# Altium schematic symbol library AD9363_K7.SCHLIB: 77 symbols
Pins are listed as number, name and electrical type; pins without a type are passive.

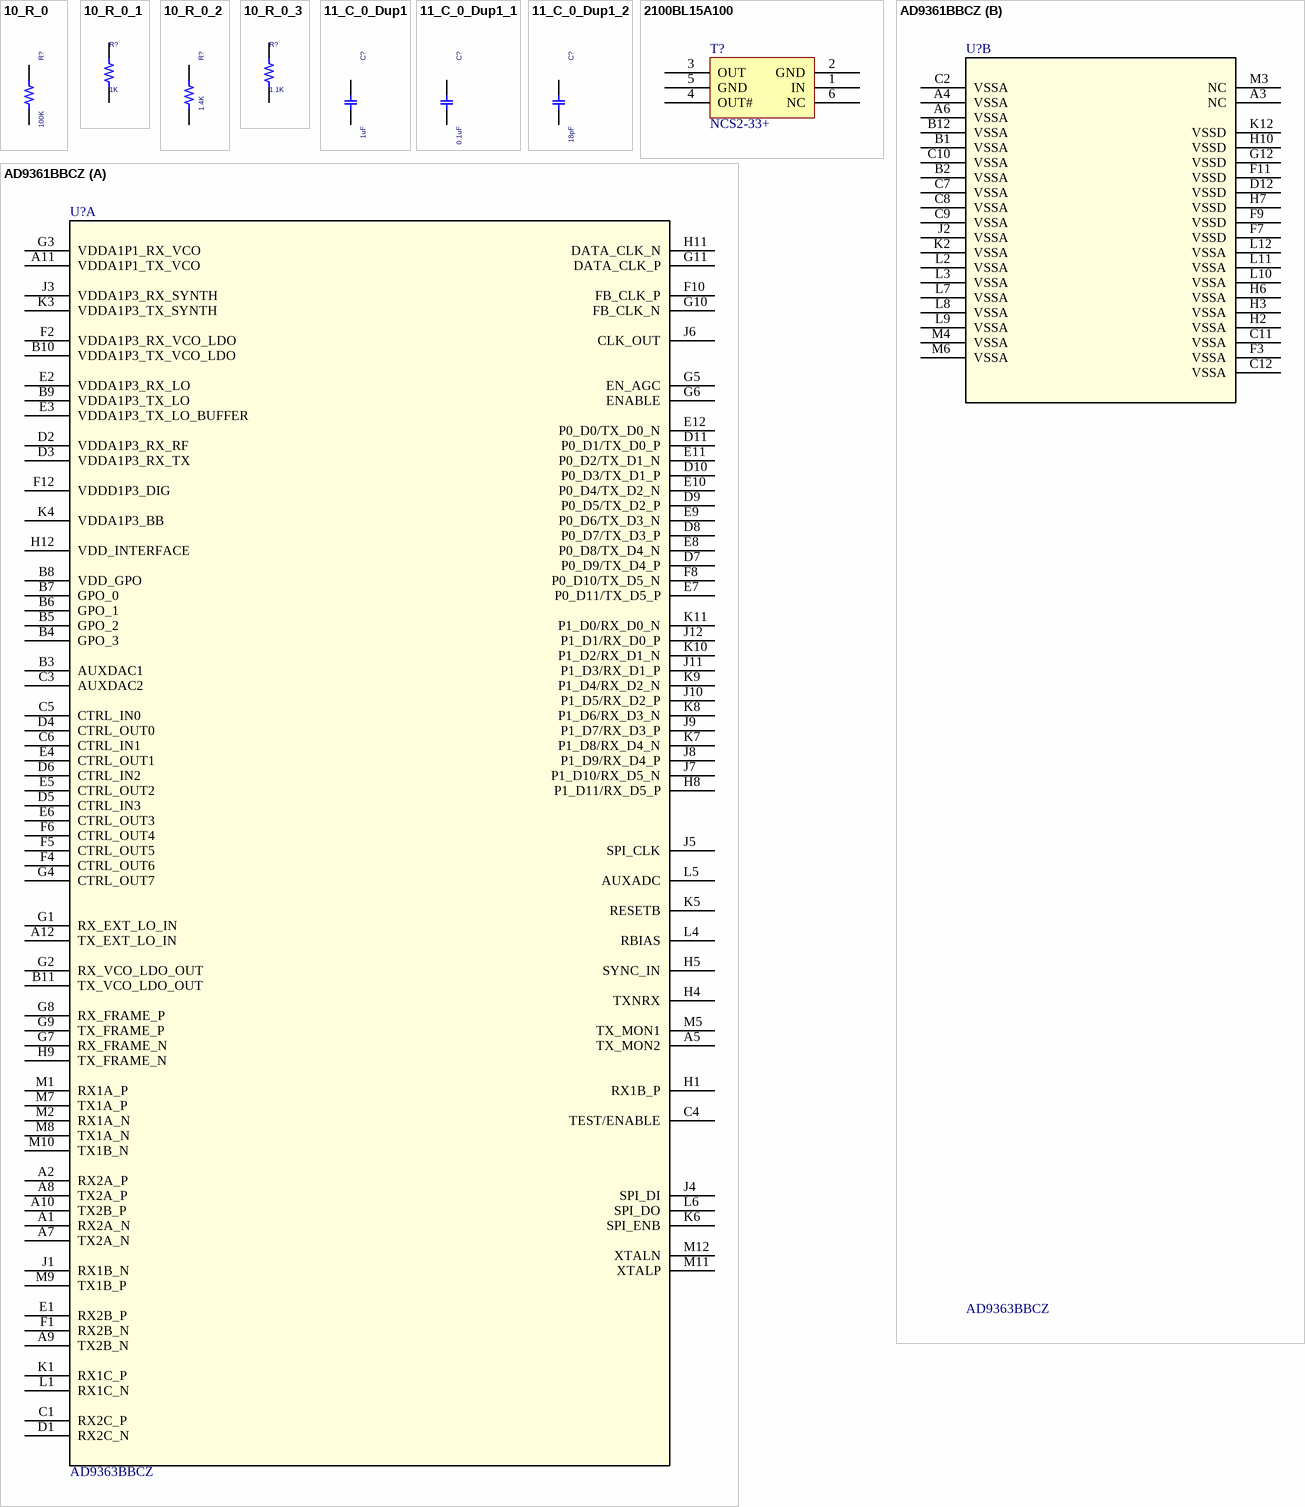
[diagram p0: symbols 10_R_0 to AD9361BBCZ]

## 10_R_0
designator R?, comment 100K
R 22 1/16W 5% SMD 0402 CR Pb FREE; Manufacture Part Number: 0402WGJ0220TCE||RM04JTN220; 1ST PART DESCRIPTION: RESISTOR 100k OHM 1/16 1%; CLASS: DISCRETE; ProcessType: SMT; Tolerance: 5%
footprint R0402
pins: 1, 2

## 10_R_0_1
designator R?, comment 1K
R 22 1/16W 5% SMD 0402 CR Pb FREE; 1ST PART DESCRIPTION: RESISTOR 1k OHM 1/16 1%; Manufacture Part Number: 0402WGJ0220TCE||RM04JTN220; CLASS: DISCRETE; ProcessType: SMT; Tolerance: 5%
footprint R0402
pins: 1, 2

## 10_R_0_2
designator R?, comment 1.4K
R 22 1/16W 5% SMD 0402 CR Pb FREE; Manufacture Part Number: 0402WGJ0220TCE||RM04JTN220; 1ST PART DESCRIPTION: RESISTOR 1.4k OHM 1/16 1%; CLASS: DISCRETE; ProcessType: SMT; Tolerance: 5%
footprint R0402
pins: 1, 2

## 10_R_0_3
designator R?, comment 1.1K
R 22 1/16W 5% SMD 0402 CR Pb FREE; 1ST PART DESCRIPTION: RESISTOR 1k OHM 1/16 1%; Manufacture Part Number: 0402WGJ0220TCE||RM04JTN220; CLASS: DISCRETE; ProcessType: SMT; Tolerance: 5%
footprint R0402
pins: 1, 2

## 11_C_0_Dup1
designator C?, comment 1uF
CAP 0.1uF 16V +-10% SMD 0402 MLCC X7R; Manufacture Part Number: 2238 787 15649||CC0402KRX7R7BB104; CLASS: DISCRETE; Tolerance: 10%; ProcessType: SMT
footprint C0402
pins: 1, 2

## 11_C_0_Dup1_1
designator C?, comment 0.1uF
CAP 0.1uF 16V +-10% SMD 0402 MLCC X7R; Manufacture Part Number: 2238 787 15649||CC0402KRX7R7BB104; CLASS: DISCRETE; Tolerance: 10%; ProcessType: SMT
footprint C0402
pins: 1, 2

## 11_C_0_Dup1_2
designator C?, comment 18pF
CAP 0.1uF 16V +-10% SMD 0402 MLCC X7R; Manufacture Part Number: 2238 787 15649||CC0402KRX7R7BB104; CLASS: DISCRETE; Tolerance: 10%; ProcessType: SMT
footprint C0402
pins: 1, 2

## 2100BL15A100
designator T?, comment NCS2-33+
footprint NCS2-33+
pins: 1 IN, 2 GND, 3 OUT, 4 OUT#, 5 GND, 6 NC

## AD9361BBCZ
designator U?, comment AD9363BBCZ
No Description Available; Mfr_Name: Analog Devices Inc; Manufacturer_Part_Number: AD9361BBCZ; Copyright: Copyright (C) 2023 Ultra Librarian. All rights reserved.; RefDes: RefDes; Type: DEV
footprint BC_144_7_ADI
part A pins: A1 RX2A_N, A2 RX2A_P, A5 TX_MON2, A7 TX2A_N, A8 TX2A_P, A9 TX2B_N, A10 TX2B_P, A11 VDDA1P1_TX_VCO, A12 TX_EXT_LO_IN, B3 AUXDAC1, B4 GPO_3, B5 GPO_2, B6 GPO_1, B7 GPO_0, B8 VDD_GPO, B9 VDDA1P3_TX_LO, B10 VDDA1P3_TX_VCO_LDO, B11 TX_VCO_LDO_OUT, C1 RX2C_P, C3 AUXDAC2, C4 TEST/ENABLE, C5 CTRL_IN0, C6 CTRL_IN1, D1 RX2C_N, D2 VDDA1P3_RX_RF, D3 VDDA1P3_RX_TX, D4 CTRL_OUT0, D5 CTRL_IN3, D6 CTRL_IN2, D7 P0_D9/TX_D4_P, D8 P0_D7/TX_D3_P, D9 P0_D5/TX_D2_P, D10 P0_D3/TX_D1_P, D11 P0_D1/TX_D0_P, E1 RX2B_P, E2 VDDA1P3_RX_LO, E3 VDDA1P3_TX_LO_BUFFER, E4 CTRL_OUT1, E5 CTRL_OUT2, E6 CTRL_OUT3, E7 P0_D11/TX_D5_P, E8 P0_D8/TX_D4_N, E9 P0_D6/TX_D3_N, E10 P0_D4/TX_D2_N, E11 P0_D2/TX_D1_N, E12 P0_D0/TX_D0_N, F1 RX2B_N, F2 VDDA1P3_RX_VCO_LDO, F4 CTRL_OUT6, F5 CTRL_OUT5, F6 CTRL_OUT4, F8 P0_D10/TX_D5_N, F10 FB_CLK_P, F12 VDDD1P3_DIG, G1 RX_EXT_LO_IN, G2 RX_VCO_LDO_OUT, G3 VDDA1P1_RX_VCO, G4 CTRL_OUT7, G5 EN_AGC, G6 ENABLE, G7 RX_FRAME_N, G8 RX_FRAME_P, G9 TX_FRAME_P, G10 FB_CLK_N, G11 DATA_CLK_P, H1 RX1B_P, H4 TXNRX, H5 SYNC_IN, H8 P1_D11/RX_D5_P, H9 TX_FRAME_N, H11 DATA_CLK_N, H12 VDD_INTERFACE, J1 RX1B_N, J3 VDDA1P3_RX_SYNTH, J4 SPI_DI, J5 SPI_CLK, J6 CLK_OUT, J7 P1_D10/RX_D5_N, J8 P1_D9/RX_D4_P, J9 P1_D7/RX_D3_P, J10 P1_D5/RX_D2_P, J11 P1_D3/RX_D1_P, J12 P1_D1/RX_D0_P, K1 RX1C_P, K3 VDDA1P3_TX_SYNTH, K4 VDDA1P3_BB, K5 RESETB, K6 SPI_ENB, K7 P1_D8/RX_D4_N, K8 P1_D6/RX_D3_N, K9 P1_D4/RX_D2_N, K10 P1_D2/RX_D1_N, K11 P1_D0/RX_D0_N, L1 RX1C_N, L4 RBIAS, L5 AUXADC, L6 SPI_DO, M1 RX1A_P, M2 RX1A_N, M5 TX_MON1, M7 TX1A_P, M8 TX1A_N, M9 TX1B_P, M10 TX1B_N, M11 XTALP, M12 XTALN
part B pins: A3 NC, A4 VSSA, A6 VSSA, B1 VSSA, B2 VSSA, B12 VSSA, C2 VSSA, C7 VSSA, C8 VSSA, C9 VSSA, C10 VSSA, C11 VSSA, C12 VSSA, D12 VSSD, F3 VSSA, F7 VSSD, F9 VSSD, F11 VSSD, G12 VSSD, H2 VSSA, H3 VSSA, H6 VSSA, H7 VSSD, H10 VSSD, J2 VSSA, K2 VSSA, K12 VSSD, L2 VSSA, L3 VSSA, L7 VSSA, L8 VSSA, L9 VSSA, L10 VSSA, L11 VSSA, L12 VSSA, M3 NC, M4 VSSA, M6 VSSA

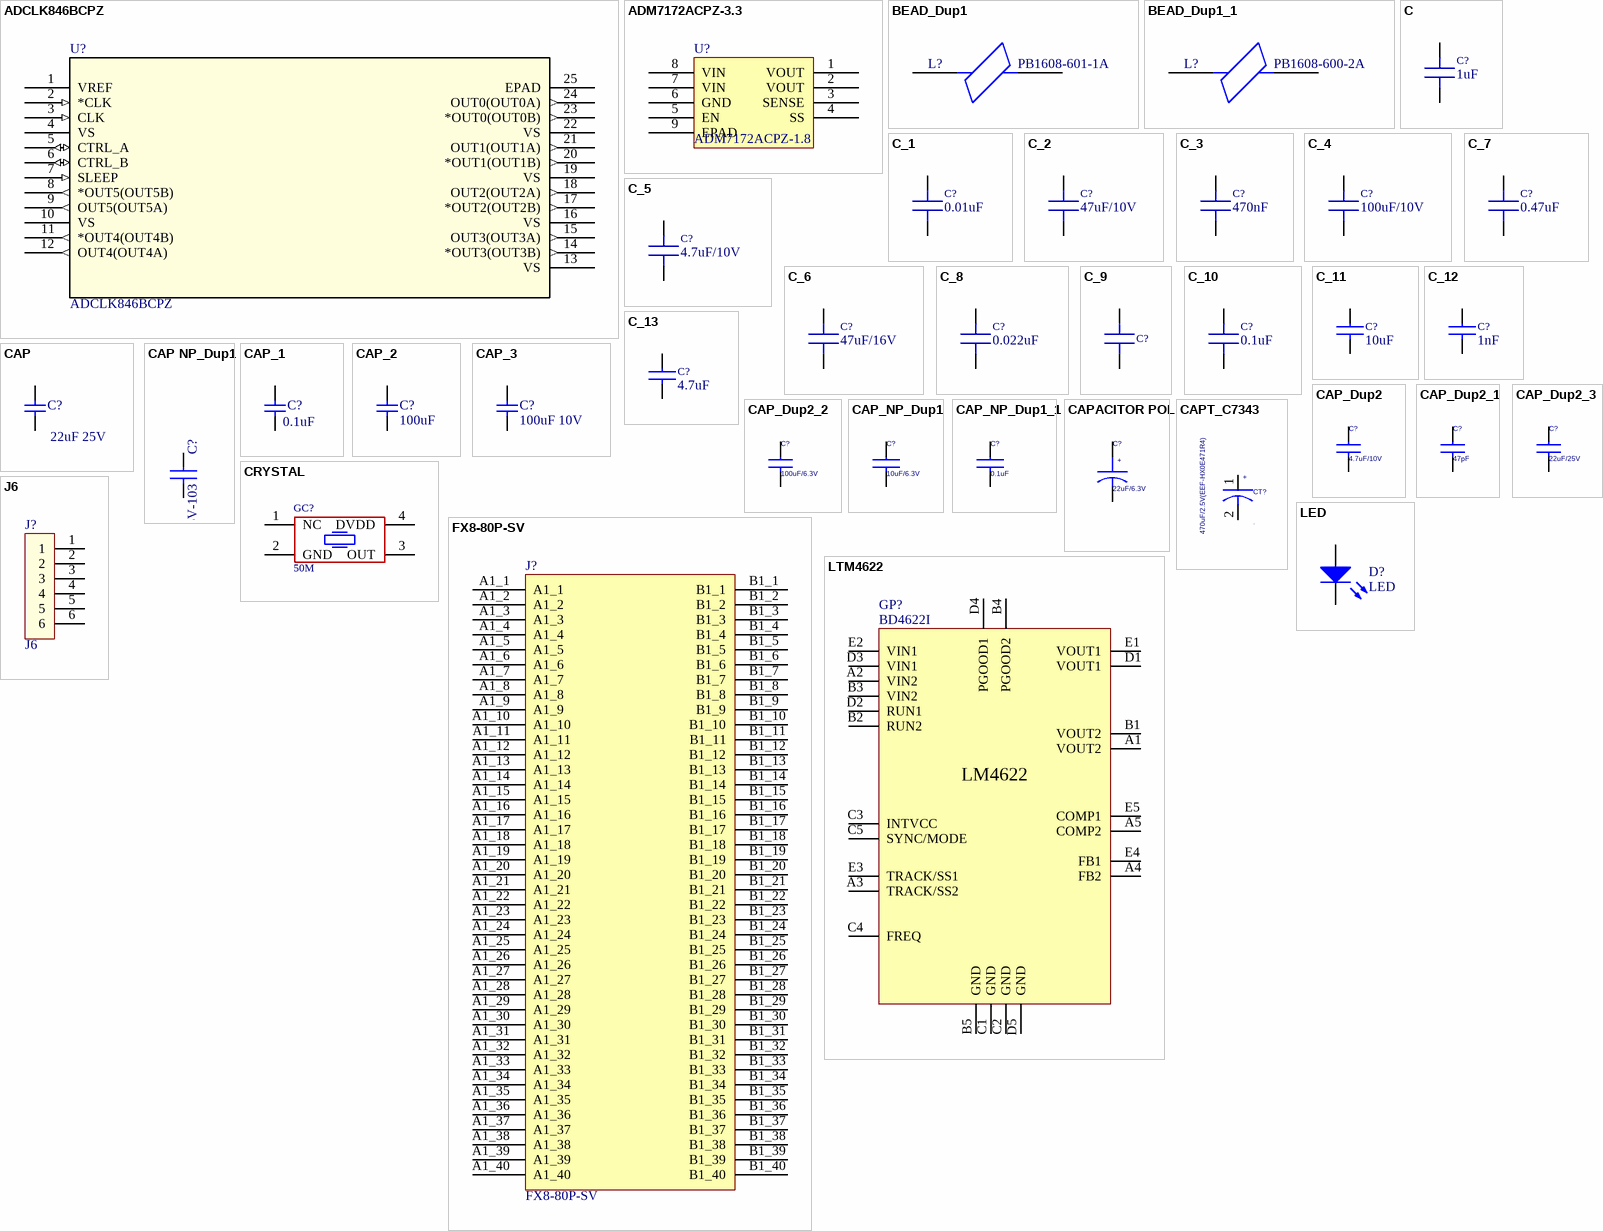
[diagram p1: symbols ADCLK846BCPZ to LTM4622]

## ADCLK846BCPZ
designator U?
No Description Available; Mfr_Name: Analog Devices Inc; Copyright: Copyright (C) 2024 Ultra Librarian. All rights reserved.; Manufacturer_Part_Number: ADCLK846BCPZ; RefDes: RefDes; Type: DEV
footprint CP_24_2_ADI
pins: 1 VREF, 2 *CLK (in), 3 CLK (in), 4 VS (power), 5 CTRL_A (io), 6 CTRL_B (io), 7 SLEEP (in), 8 *OUT5(OUT5B) (out), 9 OUT5(OUT5A) (out), 10 VS (power), 11 *OUT4(OUT4B) (out), 12 OUT4(OUT4A) (out), 13 VS (power), 14 *OUT3(OUT3B) (out), 15 OUT3(OUT3A) (out), 16 VS (power), 17 *OUT2(OUT2B) (out), 18 OUT2(OUT2A) (out), 19 VS (power), 20 *OUT1(OUT1B) (out), 21 OUT1(OUT1A) (out), 22 VS (power), 23 *OUT0(OUT0B) (out), 24 OUT0(OUT0A) (out), 25 EPAD

## ADM7172ACPZ-3.3
designator U?, comment ADM7172ACPZ-1.8
footprint ADM7172 (Footprint not found)
pins: 1 VOUT, 2 VOUT, 3 SENSE, 4 SS, 5 EN, 6 GND, 7 VIN, 8 VIN, 9 EPAD

## BEAD_Dup1
designator L?, comment PB1608-601-1A
PCB Footprint: L0603
footprint L0603 (Footprint not found)
pins: 1, 2

## BEAD_Dup1_1
designator L?, comment PB1608-600-2A
PCB Footprint: L0603
footprint L0603
pins: 1, 2

## C
designator C?, comment 1uF
Value: 1uF
footprint C0402
pins: 1, 2

## C_1
designator C?, comment 0.01uF
Value: 0.01uF
footprint C0402
pins: 1, 2

## C_2
designator C?, comment 47uF/10V
Value: 47uF/10V
footprint 0603 (Chip Inductor, Body 0.6x0.3mm, IPC High Density)
footprint 0402
footprint 0805
footprint C1210
footprint C1206
pins: 1, 2

## C_3
designator C?, comment 470nF
Value: 470nF
footprint C0402
pins: 1, 2

## C_4
designator C?, comment 100uF/10V
Value: 100uF/10V
footprint 0603 (Chip Inductor, Body 0.6x0.3mm, IPC High Density)
footprint 0402
footprint 0805
footprint C1210
footprint C1206
pins: 1, 2

## C_5
designator C?, comment 4.7uF/10V
Value: 4.7uF/10V
footprint C0402
pins: 1, 2

## C_6
designator C?, comment 47uF/16V
Value: 47uF/16V
footprint 0603 (Chip Inductor, Body 0.6x0.3mm, IPC High Density)
footprint 0402
footprint 0805
footprint C1210
footprint C1206
pins: 1, 2

## C_7
designator C?, comment 0.47uF
Value: 0.47uF
footprint C0402
pins: 1, 2

## C_8
designator C?, comment 0.022uF
Value: 0.022uF
footprint C0402
pins: 1, 2

## C_9
designator C?, comment 47uF/10V  (value not drawn)
footprint 0603 (Chip Inductor, Body 0.6x0.3mm, IPC High Density)
footprint 0402
footprint 0805
footprint C1210
footprint C1206
pins: 1, 2

## C_10
designator C?, comment 0.1uF
Value: 0.1uF
footprint C0402
pins: 1, 2

## C_11
designator C?, comment 10uF
value: 10uF
footprint C0603
pins: 1, 2

## C_12
designator C?, comment value 1nF  (hidden comment: 0.01uF)
footprint C0402
pins: 1, 2

## C_13
designator C?, comment value 4.7uF  (hidden comment: 0.01uF)
footprint C0603
pins: 1, 2

## CAP
designator C?, comment 22uF 25V
CAP; VALUE: 22uF 25V
footprint C0805
pins: 1, 2

## CAP NP_Dup1
designator C?, comment C0402-16V-103
PCB Footprint: C0402
footprint C0402
pins: 1, 2

## CAP_1
designator C?, comment 0.1uF
CAP; VALUE: 0.1uF
footprint C0402
pins: 1, 2

## CAP_2
designator C?, comment 100uF
CAP; VALUE: 100uF
footprint C0805
pins: 1, 2

## CAP_3
designator C?, comment 100uF 10V
CAP; VALUE: 100uF 10V
footprint C0805
pins: 1, 2

## CAP_Dup2
designator C?, comment 4.7uF/10V
Manufacturer Part Num: GRM32DR71E106KA12L; Manufacturer: Murata; Part Class: Capacitors; Num Pins: 2; Item Num: P03-15392R; Page: FPGA1_1V0_1V8; Lead Free Status: No; Price: 0
footprint C0805
footprint C0402
pins: 1, 2

## CAP_Dup2_1
designator C?, comment 47pF
Part Class: Capacitors; Manufacturer: Murata; Manufacturer Part Num: GRM32DR71E106KA12L; Item Num: P03-15392R; Num Pins: 2; Page: FPGA1_1V0_1V8; Price: 0; Lead Free Status: No
footprint 0805
footprint 0402
footprint C0402
pins: 1, 2

## CAP_Dup2_2
designator C?, comment 100uF/6.3V
MFR_LIFECYCLE: Active; PART_SUBCLASS: CAPACITORS; Manufacturer Part Num: GRM31CR60J107ME39L; Manufacturer: Murata; TOLERANCE: +/-20%; Num Pins: 2; RATED_VOLTAGE: 6.3V; Item Num: P03-15292R; Page: FPGA1_1V0_1V8; Lead Free Status: Lead Free; LIFECYCLE_PHASE: Active
footprint C0805
pins: 1, 2

## CAP_Dup2_3
designator C?, comment 22uF/25V
Part Class: Capacitors; Manufacturer: Murata; Manufacturer Part Num: GRM32DR71E106KA12L; Item Num: P03-15392R; Num Pins: 2; Page: FPGA1_1V0_1V8; Price: 0; Lead Free Status: No
footprint C0805
pins: 1, 2

## CAP_NP_Dup1
designator C?, comment 10uF/6.3V
1ST PART DESCRIPTION: CAP 10uF X7R 6.3V 20%
footprint C0603
pins: 1, 2

## CAP_NP_Dup1_1
designator C?, comment 0.1uF
1ST PART DESCRIPTION: CAP 0.1uF X7R 16V 20%
footprint C0402
pins: 1, 2

## CAPACITOR POL
designator C?, comment 22uF/6.3V
1ST PART DESCRIPTION: CAP 22uF TANT 6.3V 20%; 1ST PART FOOTPRINT: 1210
footprint C1206
pins: 1, 2
text: +

## CAPT_C7343
designator CT?, comment 470uF/2.5V(EEF-HX0E471R4)  NO_STUFF: .
Page: FPGA1_1V0_1V8
footprint C7343
pins: 1, 2
text: +

## CRYSTAL
designator GC?, comment 50M
表贴晶振，电压为3.3V
footprint CRYSTAL_3225
pins: 1 NC, 2 GND, 3 OUT, 4 DVDD

## FX8-80P-SV
designator J?
footprint FX8-80P-SV
pins: A1_1, A1_2, A1_3, A1_4, A1_5, A1_6, A1_7, A1_8, A1_9, A1_10, A1_11, A1_12, A1_13, A1_14, A1_15, A1_16, A1_17, A1_18, A1_19, A1_20, A1_21, A1_22, A1_23, A1_24, A1_25, A1_26, A1_27, A1_28, A1_29, A1_30, A1_31, A1_32, A1_33, A1_34, A1_35, A1_36, A1_37, A1_38, A1_39, A1_40, B1_1, B1_2, B1_3, B1_4, B1_5, B1_6, B1_7, B1_8, B1_9, B1_10, B1_11, B1_12, B1_13, B1_14, B1_15, B1_16, B1_17, B1_18, B1_19, B1_20, B1_21, B1_22, B1_23, B1_24, B1_25, B1_26, B1_27, B1_28, B1_29, B1_30, B1_31, B1_32, B1_33, B1_34, B1_35, B1_36, B1_37, B1_38, B1_39, B1_40

## J6
designator J?
footprint HDR1X6 (Connector; Header; 6 Position)
pins: 1, 2, 3, 4, 5, 6

## LED
designator D?
footprint LED0603
pins: 1 A, 2 K

## LTM4622
designator GP?, comment BD4622I
footprint LTM4622
pins: A1 VOUT2, A2 VIN2, A3 TRACK/SS2, A4 FB2, A5 COMP2, B1 VOUT2, B2 RUN2, B3 VIN2, B4 PGOOD2, B5 GND, C1 GND, C2 GND, C3 INTVCC, C4 FREQ, C5 SYNC/MODE, D1 VOUT1, D2 RUN1, D3 VIN1, D4 PGOOD1, D5 GND, E1 VOUT1, E2 VIN1, E3 TRACK/SS1, E4 FB1, E5 COMP1
text: LM4622

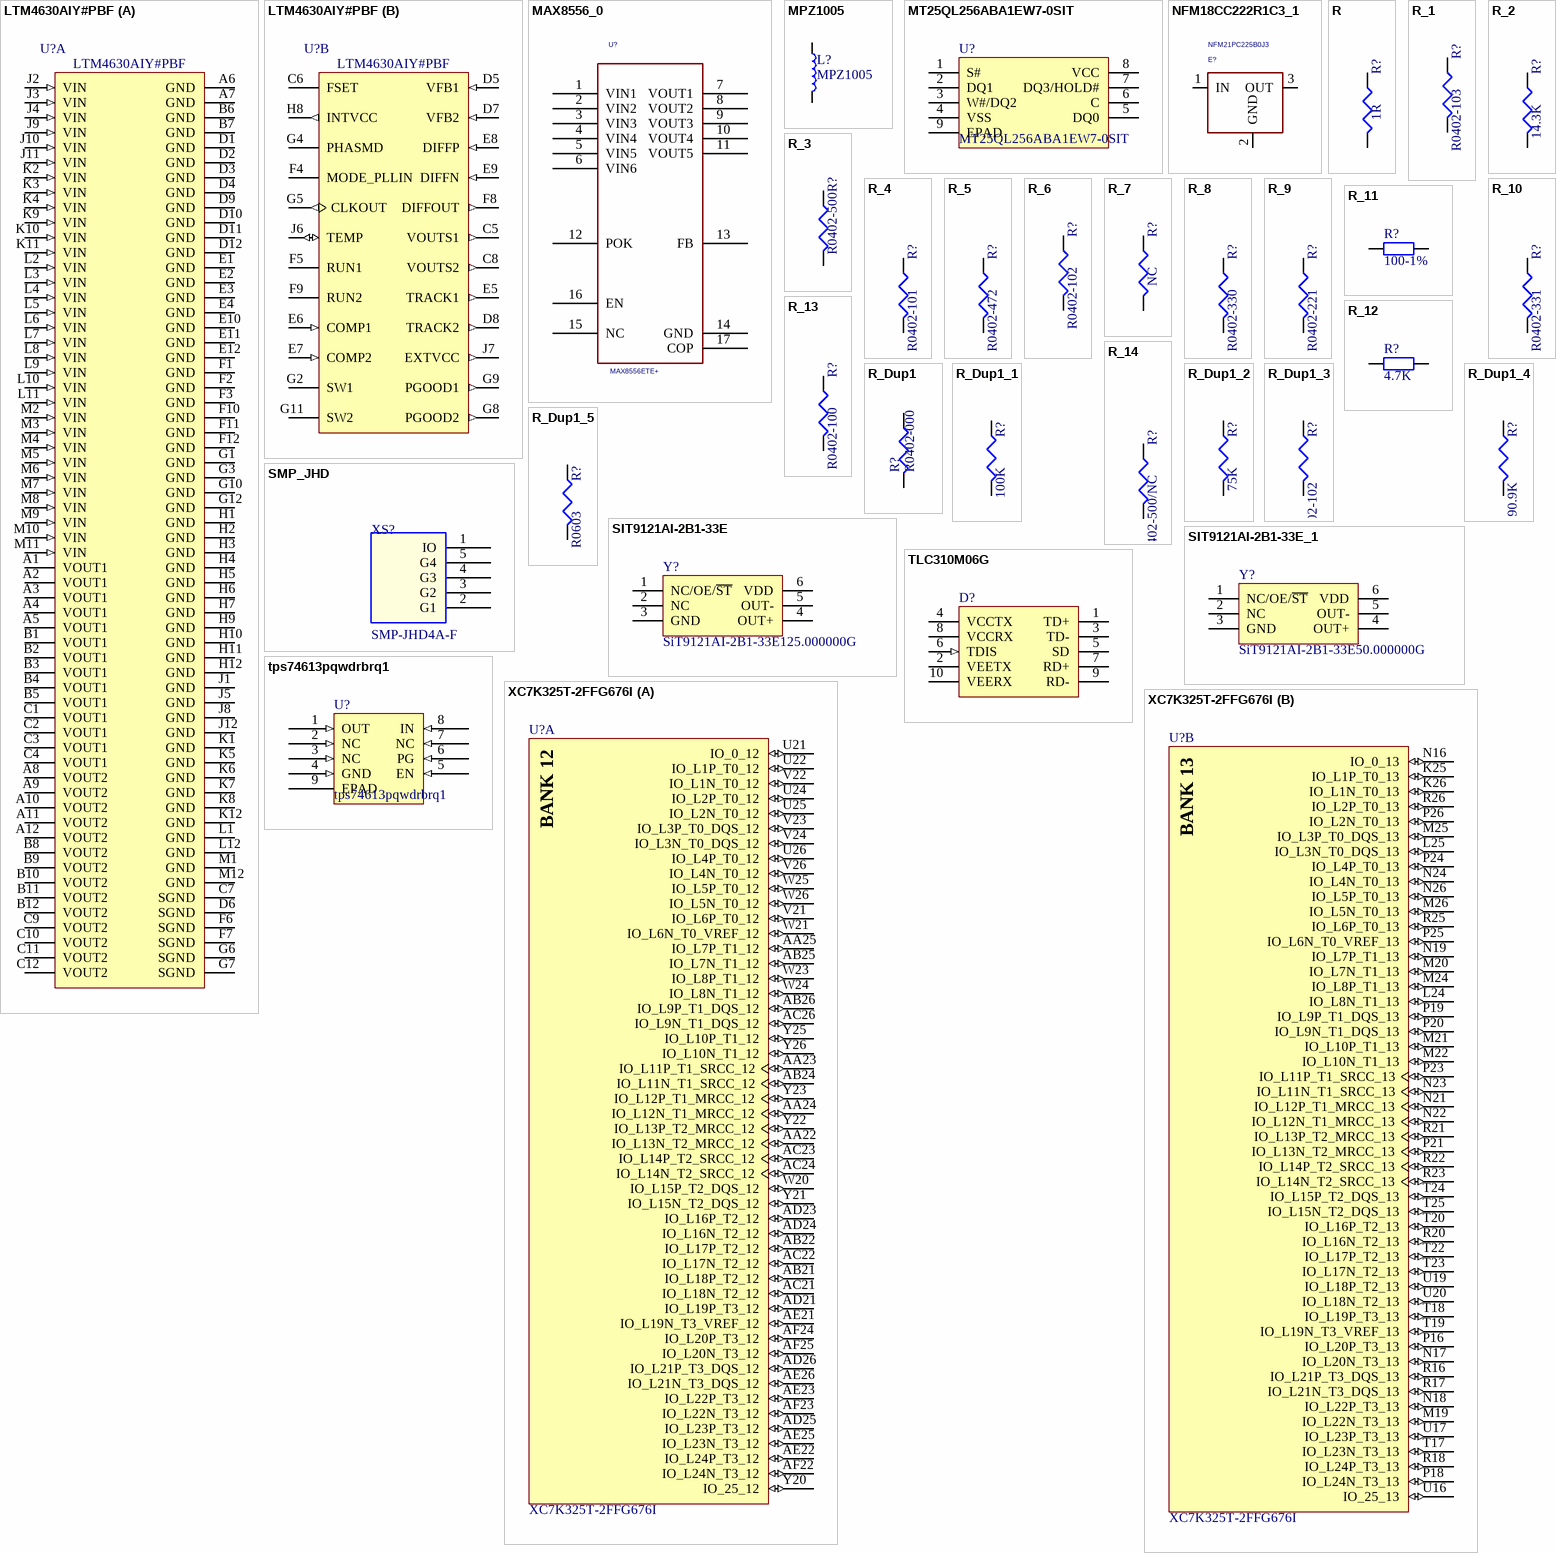
[diagram p2: symbols LTM4630AIY#PBF to XC7K325T-2FFG676I]

## LTM4630AIY#PBF
designator U?
厂家: ADI; 型号: LTM4630AIY#PBF
footprint LGA144 (LTM4630)
part A pins: A1 VOUT1, A2 VOUT1, A3 VOUT1, A4 VOUT1, A5 VOUT1, A6 GND (power), A7 GND (power), A8 VOUT2, A9 VOUT2, A10 VOUT2, A11 VOUT2, A12 VOUT2, B1 VOUT1, B2 VOUT1, B3 VOUT1, B4 VOUT1, B5 VOUT1, B6 GND (power), B7 GND (power), B8 VOUT2, B9 VOUT2, B10 VOUT2, B11 VOUT2, B12 VOUT2, C1 VOUT1, C2 VOUT1, C3 VOUT1, C4 VOUT1, C7 SGND (power), C9 VOUT2, C10 VOUT2, C11 VOUT2, C12 VOUT2, D1 GND (power), D2 GND (power), D3 GND (power), D4 GND (power), D6 SGND (power), D9 GND (power), D10 GND (power), D11 GND (power), D12 GND (power), E1 GND (power), E2 GND (power), E3 GND (power), E4 GND (power), E10 GND (power), E11 GND (power), E12 GND (power), F1 GND (power), F2 GND (power), F3 GND (power), F6 SGND (power), F7 SGND (power), F10 GND (power), F11 GND (power), F12 GND (power), G1 GND (power), G3 GND (power), G6 SGND (power), G7 SGND (power), G10 GND (power), G12 GND (power), H1 GND (power), H2 GND (power), H3 GND (power), H4 GND (power), H5 GND (power), H6 GND (power), H7 GND (power), H9 GND (power), H10 GND (power), H11 GND (power), H12 GND (power), J1 GND (power), J2 VIN (in), J3 VIN (in), J4 VIN (in), J5 GND (power), J8 GND (power), J9 VIN (in), J10 VIN (in), J11 VIN (in), J12 GND (power), K1 GND (power), K2 VIN (in), K3 VIN (in), K4 VIN (in), K5 GND (power), K6 GND (power), K7 GND (power), K8 GND (power), K9 VIN (in), K10 VIN (in), K11 VIN (in), K12 GND (power), L1 GND (power), L2 VIN (in), L3 VIN (in), L4 VIN (in), L5 VIN (in), L6 VIN (in), L7 VIN (in), L8 VIN (in), L9 VIN (in), L10 VIN (in), L11 VIN (in), L12 GND (power), M1 GND (power), M2 VIN (in), M3 VIN (in), M4 VIN (in), M5 VIN (in), M6 VIN (in), M7 VIN (in), M8 VIN (in), M9 VIN (in), M10 VIN (in), M11 VIN (in), M12 GND (power)
part B pins: C5 VOUTS1 (out), C6 FSET, C8 VOUTS2 (out), D5 VFB1 (in), D7 VFB2 (in), D8 TRACK2 (out), E5 TRACK1 (out), E6 COMP1 (in), E7 COMP2 (in), E8 DIFFP (in), E9 DIFFN (in), F4 MODE_PLLIN, F5 RUN1, F8 DIFFOUT (out), F9 RUN2, G2 SW1, G4 PHASMD (power), G5 CLKOUT (out), G8 PGOOD2 (out), G9 PGOOD1 (out), G11 SW2, H8 INTVCC (out), J6 TEMP (io), J7 EXTVCC (out)

## MAX8556_0
designator U?, comment MAX8556ETE+
1ST PART DESCRIPTION: MAXIM MAX8556ETE+ 4A Ultra Low Voltage LDO
footprint QFN16
pins: 1 VIN1 (power), 2 VIN2 (power), 3 VIN3 (power), 4 VIN4 (power), 5 VIN5 (power), 6 VIN6 (power), 7 VOUT1 (power), 8 VOUT2 (power), 9 VOUT3 (power), 10 VOUT4 (power), 11 VOUT5 (power), 12 POK, 13 FB, 14 GND (power), 15 NC, 16 EN, 17 COP (power)

## MPZ1005
designator L?
1.5
footprint L0402
pins: 1, 2

## MT25QL256ABA1EW7-0SIT
designator U?
256M,QSPI FLASH; 厂商: Micron
footprint MT25QL256ABA1EW7-0SIT
pins: 1 S#, 2 DQ1, 3 W#/DQ2, 4 VSS, 5 DQ0, 6 C, 7 DQ3/HOLD#, 8 VCC, 9 EPAD

## NFM18CC222R1C3_1
designator E?, comment NFM21PC225B0J3
Part #: 102095-1222; 1ST PART DESCRIPTION: Murata NFM21PC225B0J3@4A EMI FILTER
footprint NFM21CC
pins: 1 IN, 2 GND, 3 OUT

## R
designator R?, comment 1R
PCB Footprint: 0402-BGA
footprint R0603
footprint R0402
pins: 1, 2

## R_1
designator R?, comment R0402-103
PCB Footprint: 0402-BGA
footprint R0402
pins: 1, 2

## R_2
designator R?, comment 14.3K
PCB Footprint: 0402-BGA
footprint R0402
pins: 1, 2

## R_3
designator R?, comment R0402-500
PCB Footprint: 0402-BGA
footprint R0402
pins: 1, 2

## R_4
designator R?, comment R0402-101
PCB Footprint: 0402-BGA
footprint R0402
pins: 1, 2

## R_5
designator R?, comment R0402-472
PCB Footprint: 0402-BGA
footprint R0402
pins: 1, 2

## R_6
designator R?, comment R0402-102
PCB Footprint: 0402-BGA
footprint R0402
pins: 1, 2

## R_7
designator R?, comment NC
PCB Footprint: 0402-BGA
footprint R0402
pins: 1, 2

## R_8
designator R?, comment R0402-330
PCB Footprint: 0402-BGA
footprint R0402
pins: 1, 2

## R_9
designator R?, comment R0402-221
PCB Footprint: 0402-BGA
footprint R0402
pins: 1, 2

## R_10
designator R?, comment R0402-331
PCB Footprint: 0402-BGA
footprint R0402
pins: 1, 2

## R_11
designator R?, comment 100-1%
Value: 100-1%
footprint R0402
pins: 1, 2

## R_12
designator R?, comment 4.7K
Value: 4.7K
footprint R0402
pins: 1, 2

## R_13
designator R?, comment R0402-100
PCB Footprint: 0402-BGA
footprint R0402
pins: 1, 2

## R_14
designator R?, comment R0402-500/NC
PCB Footprint: 0402-BGA
footprint R0402
pins: 1, 2

## R_Dup1
designator R?, comment R0402-000
PCB Footprint: 0402-BGA
footprint R0402
pins: 1, 2

## R_Dup1_1
designator R?, comment 100K
PCB Footprint: R0603
footprint R0402
pins: 1, 2

## R_Dup1_2
designator R?, comment 75K
PCB Footprint: R0603
footprint R0402
pins: 1, 2

## R_Dup1_3
designator R?, comment R0402-102
PCB Footprint: R0603
footprint R0402
pins: 1, 2

## R_Dup1_4
designator R?, comment 90.9K
PCB Footprint: R0603
footprint R0603 (Chip Inductor, Body 0.6x0.3mm, IPC High Density)
footprint R0402
pins: 1, 2

## R_Dup1_5
designator R?, comment R0603
PCB Footprint: R0603
footprint R0603 (Chip Inductor, Body 0.6x0.3mm, IPC High Density)
pins: 1, 2

## SIT9121AI-2B1-33E
designator Y?, comment SiT9121AI-2B1-33E125.000000G
footprint SIT9121AI-2B1-33E
pins: 1 NC/OE/~{ST}, 2 NC, 3 GND, 4 OUT+, 5 OUT-, 6 VDD

## SIT9121AI-2B1-33E_1
designator Y?, comment SiT9121AI-2B1-33E50.000000G
footprint SIT9121AI-2B1-33E
pins: 1 NC/OE/~{ST}, 2 NC, 3 GND, 4 OUT+, 5 OUT-, 6 VDD

## SMP_JHD
designator XS?, comment SMP-JHD4A-F
PCB Footprint: SMP-JHD4A-F
footprint SMA5
pins: 1 IO, 2 G1, 3 G2, 4 G3, 5 G4

## TLC310M06G
designator D?  (value not drawn)
footprint TLC310M06G
pins: 1 TD+, 2 VEETX (power), 3 TD-, 4 VCCTX (power), 5 SD, 6 TDIS (in), 7 RD+, 8 VCCRX (power), 9 RD-, 10 VEERX (power)

## tps74613pqwdrbrq1
designator U?
footprint VSON-8
pins: 1 OUT (in), 2 NC (in), 3 NC (in), 4 GND (in), 5 EN (in), 6 PG (in), 7 NC (in), 8 IN (in), 9 EPAD

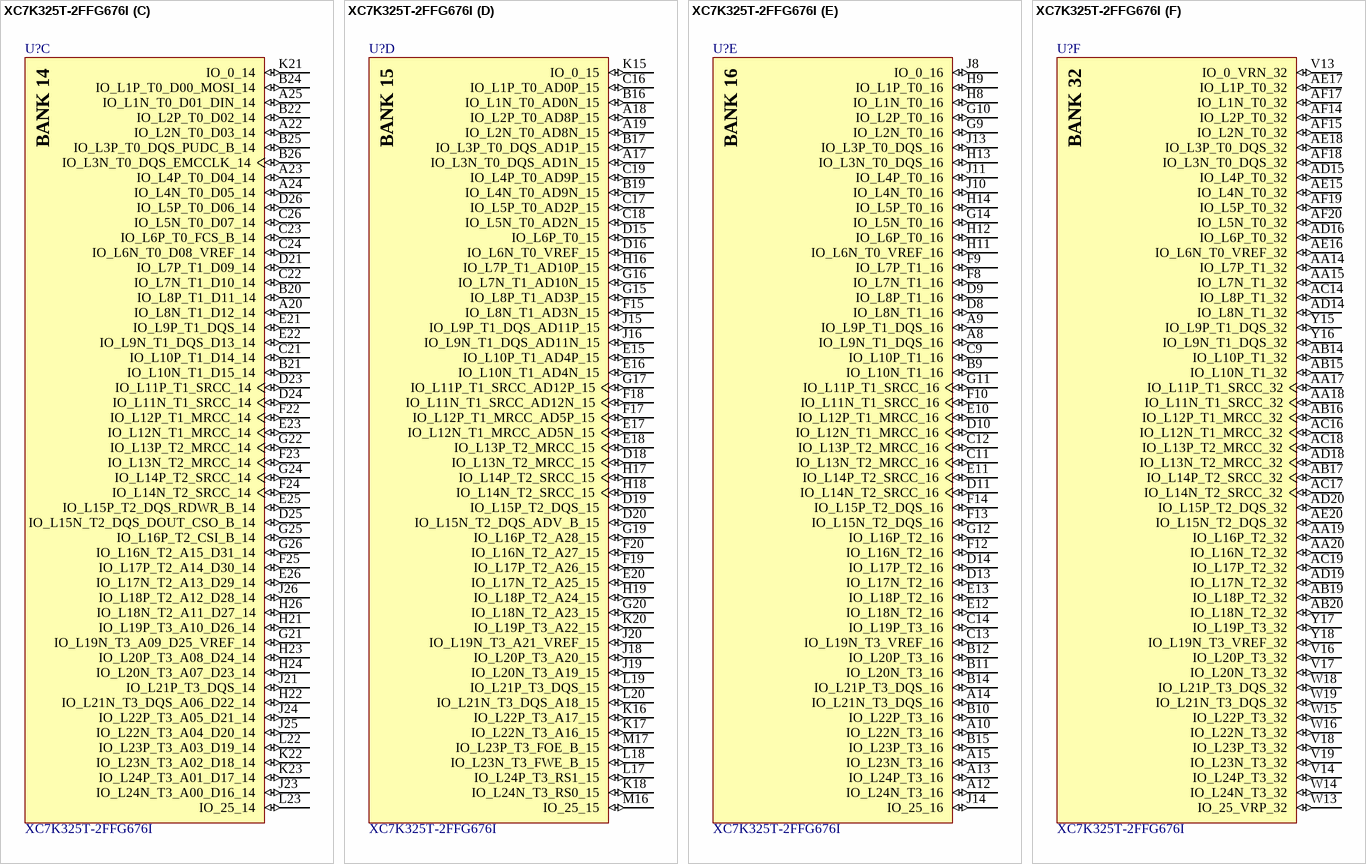
[diagram p3: symbol XC7K325T-2FFG676I]

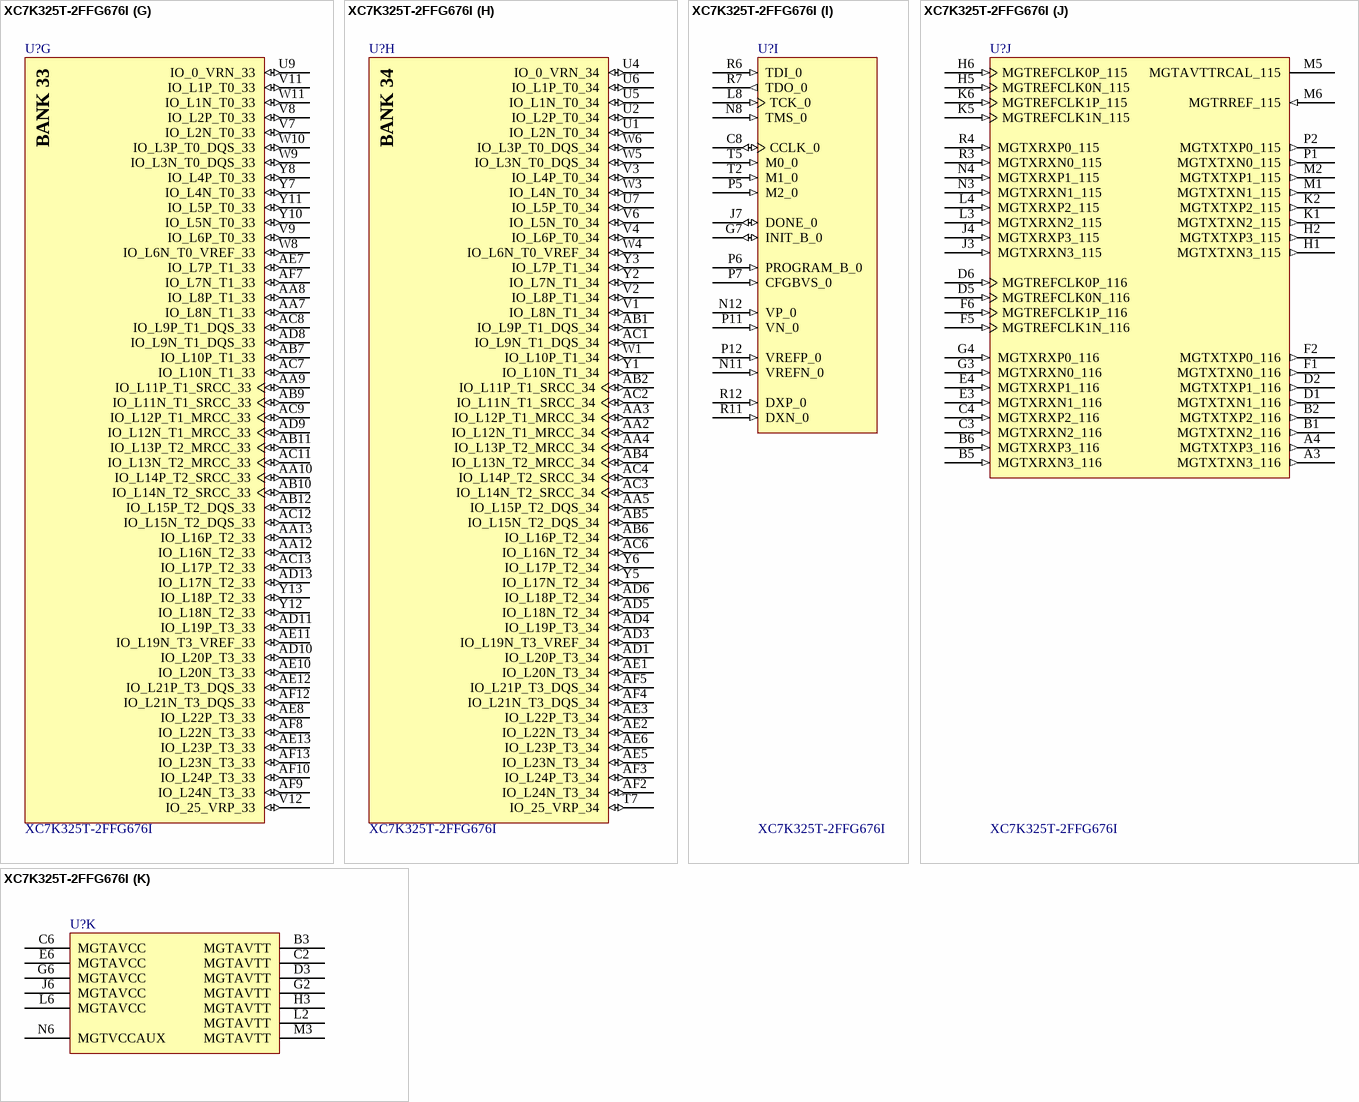
[diagram p4: symbol XC7K325T-2FFG676I]

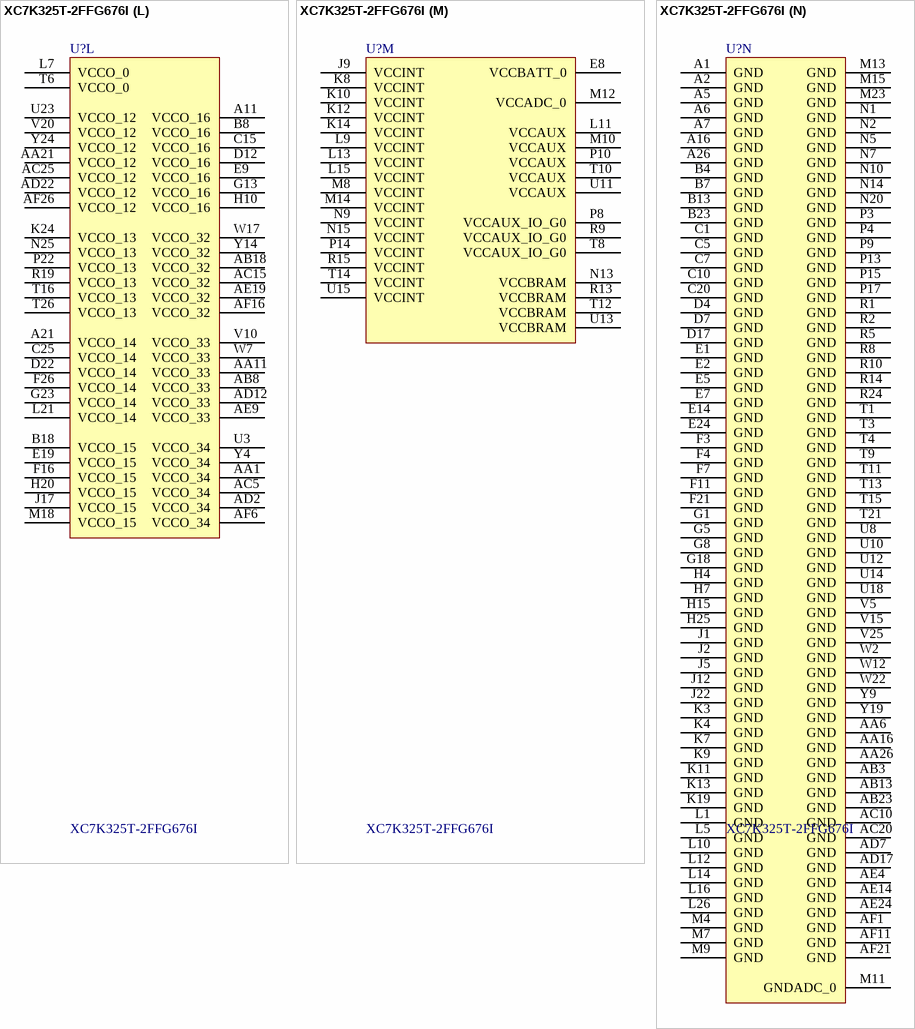
[diagram p5: symbol XC7K325T-2FFG676I]

## XC7K325T-2FFG676I
designator U?
Kintex-7 FPGA, 500 User I/Os, 8 GTX, 676-Ball BGA, Speed Grade 2, Industrial Grade, Pb-Free; Manufacturer: Xilinx; GTX: 8; SelectIO HP: 150; SelectIO HR: 250; Speed Grade: -2; DatasheetVersion: v1.12; PackageVersion: Rev 1.1; PackageReference: FFG676; PackageDescription: Flip-Chip BGA, Body 27 x 27 mm, 1.0 mm Pitch; Generic Part Number: XC7K325T; RoHS: Pb-Free; Mounting Technology: Surface Mount; Code_JEDEC: MS-034-AAL-1; PartNumber: XC7K325T-2FFG676I; ComponentLink1Description: Datasheet; ComponentLink1URL: http://www.xilinx.com/support/documentation/data_sheets/ds180_7Series_Overview.pdf; ComponentLink2Description: Package Specification; ComponentLink2URL: http://www.xilinx.com/support/documentation/user_guides/ug865-Zynq-7000-Pkg-Pinout.pdf
footprint FFG676 (BGA, 676-Balls, Body 27x27mm, Pitch 1.0mm)
part A pins: AA22 IO_L13N_T2_MRCC_12 (io), AA23 IO_L11P_T1_SRCC_12 (io), AA24 IO_L12N_T1_MRCC_12 (io), AA25 IO_L7P_T1_12 (io), AB21 IO_L18P_T2_12 (io), AB22 IO_L17P_T2_12 (io), AB24 IO_L11N_T1_SRCC_12 (io), AB25 IO_L7N_T1_12 (io), AB26 IO_L9P_T1_DQS_12 (io), AC21 IO_L18N_T2_12 (io), AC22 IO_L17N_T2_12 (io), AC23 IO_L14P_T2_SRCC_12 (io), AC24 IO_L14N_T2_SRCC_12 (io), AC26 IO_L9N_T1_DQS_12 (io), AD21 IO_L19P_T3_12 (io), AD23 IO_L16P_T2_12 (io), AD24 IO_L16N_T2_12 (io), AD25 IO_L23P_T3_12 (io), AD26 IO_L21P_T3_DQS_12 (io), AE21 IO_L19N_T3_VREF_12 (io), AE22 IO_L24P_T3_12 (io), AE23 IO_L22P_T3_12 (io), AE25 IO_L23N_T3_12 (io), AE26 IO_L21N_T3_DQS_12 (io), AF22 IO_L24N_T3_12 (io), AF23 IO_L22N_T3_12 (io), AF24 IO_L20P_T3_12 (io), AF25 IO_L20N_T3_12 (io), U21 IO_0_12 (io), U22 IO_L1P_T0_12 (io), U24 IO_L2P_T0_12 (io), U25 IO_L2N_T0_12 (io), U26 IO_L4P_T0_12 (io), V21 IO_L6P_T0_12 (io), V22 IO_L1N_T0_12 (io), V23 IO_L3P_T0_DQS_12 (io), V24 IO_L3N_T0_DQS_12 (io), V26 IO_L4N_T0_12 (io), W20 IO_L15P_T2_DQS_12 (io), W21 IO_L6N_T0_VREF_12 (io), W23 IO_L8P_T1_12 (io), W24 IO_L8N_T1_12 (io), W25 IO_L5P_T0_12 (io), W26 IO_L5N_T0_12 (io), Y20 IO_25_12 (io), Y21 IO_L15N_T2_DQS_12 (io), Y22 IO_L13P_T2_MRCC_12 (io), Y23 IO_L12P_T1_MRCC_12 (io), Y25 IO_L10P_T1_12 (io), Y26 IO_L10N_T1_12 (io)
part B pins: K25 IO_L1P_T0_13 (io), K26 IO_L1N_T0_13 (io), L24 IO_L8N_T1_13 (io), L25 IO_L3N_T0_DQS_13 (io), M19 IO_L22N_T3_13 (io), M20 IO_L7N_T1_13 (io), M21 IO_L10P_T1_13 (io), M22 IO_L10N_T1_13 (io), M24 IO_L8P_T1_13 (io), M25 IO_L3P_T0_DQS_13 (io), M26 IO_L5N_T0_13 (io), N16 IO_0_13 (io), N17 IO_L20N_T3_13 (io), N18 IO_L22P_T3_13 (io), N19 IO_L7P_T1_13 (io), N21 IO_L12P_T1_MRCC_13 (io), N22 IO_L12N_T1_MRCC_13 (io), N23 IO_L11N_T1_SRCC_13 (io), N24 IO_L4N_T0_13 (io), N26 IO_L5P_T0_13 (io), P16 IO_L20P_T3_13 (io), P18 IO_L24N_T3_13 (io), P19 IO_L9P_T1_DQS_13 (io), P20 IO_L9N_T1_DQS_13 (io), P21 IO_L13N_T2_MRCC_13 (io), P23 IO_L11P_T1_SRCC_13 (io), P24 IO_L4P_T0_13 (io), P25 IO_L6N_T0_VREF_13 (io), P26 IO_L2N_T0_13 (io), R16 IO_L21P_T3_DQS_13 (io), R17 IO_L21N_T3_DQS_13 (io), R18 IO_L24P_T3_13 (io), R20 IO_L16N_T2_13 (io), R21 IO_L13P_T2_MRCC_13 (io), R22 IO_L14P_T2_SRCC_13 (io), R23 IO_L14N_T2_SRCC_13 (io), R25 IO_L6P_T0_13 (io), R26 IO_L2P_T0_13 (io), T17 IO_L23N_T3_13 (io), T18 IO_L19P_T3_13 (io), T19 IO_L19N_T3_VREF_13 (io), T20 IO_L16P_T2_13 (io), T22 IO_L17P_T2_13 (io), T23 IO_L17N_T2_13 (io), T24 IO_L15P_T2_DQS_13 (io), T25 IO_L15N_T2_DQS_13 (io), U16 IO_25_13 (io), U17 IO_L23P_T3_13 (io), U19 IO_L18P_T2_13 (io), U20 IO_L18N_T2_13 (io)
part C pins: A20 IO_L8N_T1_D12_14 (io), A22 IO_L2N_T0_D03_14 (io), A23 IO_L4P_T0_D04_14 (io), A24 IO_L4N_T0_D05_14 (io), A25 IO_L1N_T0_D01_DIN_14 (io), B20 IO_L8P_T1_D11_14 (io), B21 IO_L10N_T1_D15_14 (io), B22 IO_L2P_T0_D02_14 (io), B24 IO_L1P_T0_D00_MOSI_14 (io), B25 IO_L3P_T0_DQS_PUDC_B_14 (io), B26 IO_L3N_T0_DQS_EMCCLK_14 (io), C21 IO_L10P_T1_D14_14 (io), C22 IO_L7N_T1_D10_14 (io), C23 IO_L6P_T0_FCS_B_14 (io), C24 IO_L6N_T0_D08_VREF_14 (io), C26 IO_L5N_T0_D07_14 (io), D21 IO_L7P_T1_D09_14 (io), D23 IO_L11P_T1_SRCC_14 (io), D24 IO_L11N_T1_SRCC_14 (io), D25 IO_L15N_T2_DQS_DOUT_CSO_B_14 (io), D26 IO_L5P_T0_D06_14 (io), E21 IO_L9P_T1_DQS_14 (io), E22 IO_L9N_T1_DQS_D13_14 (io), E23 IO_L12N_T1_MRCC_14 (io), E25 IO_L15P_T2_DQS_RDWR_B_14 (io), E26 IO_L17N_T2_A13_D29_14 (io), F22 IO_L12P_T1_MRCC_14 (io), F23 IO_L13N_T2_MRCC_14 (io), F24 IO_L14N_T2_SRCC_14 (io), F25 IO_L17P_T2_A14_D30_14 (io), G21 IO_L19N_T3_A09_D25_VREF_14 (io), G22 IO_L13P_T2_MRCC_14 (io), G24 IO_L14P_T2_SRCC_14 (io), G25 IO_L16P_T2_CSI_B_14 (io), G26 IO_L16N_T2_A15_D31_14 (io), H21 IO_L19P_T3_A10_D26_14 (io), H22 IO_L21N_T3_DQS_A06_D22_14 (io), H23 IO_L20P_T3_A08_D24_14 (io), H24 IO_L20N_T3_A07_D23_14 (io), H26 IO_L18N_T2_A11_D27_14 (io), J21 IO_L21P_T3_DQS_14 (io), J23 IO_L24N_T3_A00_D16_14 (io), J24 IO_L22P_T3_A05_D21_14 (io), J25 IO_L22N_T3_A04_D20_14 (io), J26 IO_L18P_T2_A12_D28_14 (io), K21 IO_0_14 (io), K22 IO_L23N_T3_A02_D18_14 (io), K23 IO_L24P_T3_A01_D17_14 (io), L22 IO_L23P_T3_A03_D19_14 (io), L23 IO_25_14 (io)
part D pins: A17 IO_L3N_T0_DQS_AD1N_15 (io), A18 IO_L2P_T0_AD8P_15 (io), A19 IO_L2N_T0_AD8N_15 (io), B16 IO_L1N_T0_AD0N_15 (io), B17 IO_L3P_T0_DQS_AD1P_15 (io), B19 IO_L4N_T0_AD9N_15 (io), C16 IO_L1P_T0_AD0P_15 (io), C17 IO_L5P_T0_AD2P_15 (io), C18 IO_L5N_T0_AD2N_15 (io), C19 IO_L4P_T0_AD9P_15 (io), D15 IO_L6P_T0_15 (io), D16 IO_L6N_T0_VREF_15 (io), D18 IO_L13N_T2_MRCC_15 (io), D19 IO_L15P_T2_DQS_15 (io), D20 IO_L15N_T2_DQS_ADV_B_15 (io), E15 IO_L10P_T1_AD4P_15 (io), E16 IO_L10N_T1_AD4N_15 (io), E17 IO_L12N_T1_MRCC_AD5N_15 (io), E18 IO_L13P_T2_MRCC_15 (io), E20 IO_L17N_T2_A25_15 (io), F15 IO_L8N_T1_AD3N_15 (io), F17 IO_L12P_T1_MRCC_AD5P_15 (io), F18 IO_L11N_T1_SRCC_AD12N_15 (io), F19 IO_L17P_T2_A26_15 (io), F20 IO_L16N_T2_A27_15 (io), G15 IO_L8P_T1_AD3P_15 (io), G16 IO_L7N_T1_AD10N_15 (io), G17 IO_L11P_T1_SRCC_AD12P_15 (io), G19 IO_L16P_T2_A28_15 (io), G20 IO_L18N_T2_A23_15 (io), H16 IO_L7P_T1_AD10P_15 (io), H17 IO_L14P_T2_SRCC_15 (io), H18 IO_L14N_T2_SRCC_15 (io), H19 IO_L18P_T2_A24_15 (io), J15 IO_L9P_T1_DQS_AD11P_15 (io), J16 IO_L9N_T1_DQS_AD11N_15 (io), J18 IO_L20P_T3_A20_15 (io), J19 IO_L20N_T3_A19_15 (io), J20 IO_L19N_T3_A21_VREF_15 (io), K15 IO_0_15 (io), K16 IO_L22P_T3_A17_15 (io), K17 IO_L22N_T3_A16_15 (io), K18 IO_L24N_T3_RS0_15 (io), K20 IO_L19P_T3_A22_15 (io), L17 IO_L24P_T3_RS1_15 (io), L18 IO_L23N_T3_FWE_B_15 (io), L19 IO_L21P_T3_DQS_15 (io), L20 IO_L21N_T3_DQS_A18_15 (io), M16 IO_25_15 (io), M17 IO_L23P_T3_FOE_B_15 (io)
part E pins: A8 IO_L9N_T1_DQS_16 (io), A9 IO_L9P_T1_DQS_16 (io), A10 IO_L22N_T3_16 (io), A12 IO_L24N_T3_16 (io), A13 IO_L24P_T3_16 (io), A14 IO_L21N_T3_DQS_16 (io), A15 IO_L23N_T3_16 (io), B9 IO_L10N_T1_16 (io), B10 IO_L22P_T3_16 (io), B11 IO_L20N_T3_16 (io), B12 IO_L20P_T3_16 (io), B14 IO_L21P_T3_DQS_16 (io), B15 IO_L23P_T3_16 (io), C9 IO_L10P_T1_16 (io), C11 IO_L13N_T2_MRCC_16 (io), C12 IO_L13P_T2_MRCC_16 (io), C13 IO_L19N_T3_VREF_16 (io), C14 IO_L19P_T3_16 (io), D8 IO_L8N_T1_16 (io), D9 IO_L8P_T1_16 (io), D10 IO_L12N_T1_MRCC_16 (io), D11 IO_L14N_T2_SRCC_16 (io), D13 IO_L17N_T2_16 (io), D14 IO_L17P_T2_16 (io), E10 IO_L12P_T1_MRCC_16 (io), E11 IO_L14P_T2_SRCC_16 (io), E12 IO_L18N_T2_16 (io), E13 IO_L18P_T2_16 (io), F8 IO_L7N_T1_16 (io), F9 IO_L7P_T1_16 (io), F10 IO_L11N_T1_SRCC_16 (io), F12 IO_L16N_T2_16 (io), F13 IO_L15N_T2_DQS_16 (io), F14 IO_L15P_T2_DQS_16 (io), G9 IO_L2N_T0_16 (io), G10 IO_L2P_T0_16 (io), G11 IO_L11P_T1_SRCC_16 (io), G12 IO_L16P_T2_16 (io), G14 IO_L5N_T0_16 (io), H8 IO_L1N_T0_16 (io), H9 IO_L1P_T0_16 (io), H11 IO_L6N_T0_VREF_16 (io), H12 IO_L6P_T0_16 (io), H13 IO_L3N_T0_DQS_16 (io), H14 IO_L5P_T0_16 (io), J8 IO_0_16 (io), J10 IO_L4N_T0_16 (io), J11 IO_L4P_T0_16 (io), J13 IO_L3P_T0_DQS_16 (io), J14 IO_25_16 (io)
part F pins: AA14 IO_L7P_T1_32 (io), AA15 IO_L7N_T1_32 (io), AA17 IO_L11P_T1_SRCC_32 (io), AA18 IO_L11N_T1_SRCC_32 (io), AA19 IO_L16P_T2_32 (io), AA20 IO_L16N_T2_32 (io), AB14 IO_L10P_T1_32 (io), AB15 IO_L10N_T1_32 (io), AB16 IO_L12P_T1_MRCC_32 (io), AB17 IO_L14P_T2_SRCC_32 (io), AB19 IO_L18P_T2_32 (io), AB20 IO_L18N_T2_32 (io), AC14 IO_L8P_T1_32 (io), AC16 IO_L12N_T1_MRCC_32 (io), AC17 IO_L14N_T2_SRCC_32 (io), AC18 IO_L13P_T2_MRCC_32 (io), AC19 IO_L17P_T2_32 (io), AD14 IO_L8N_T1_32 (io), AD15 IO_L4P_T0_32 (io), AD16 IO_L6P_T0_32 (io), AD18 IO_L13N_T2_MRCC_32 (io), AD19 IO_L17N_T2_32 (io), AD20 IO_L15P_T2_DQS_32 (io), AE15 IO_L4N_T0_32 (io), AE16 IO_L6N_T0_VREF_32 (io), AE17 IO_L1P_T0_32 (io), AE18 IO_L3P_T0_DQS_32 (io), AE20 IO_L15N_T2_DQS_32 (io), AF14 IO_L2P_T0_32 (io), AF15 IO_L2N_T0_32 (io), AF17 IO_L1N_T0_32 (io), AF18 IO_L3N_T0_DQS_32 (io), AF19 IO_L5P_T0_32 (io), AF20 IO_L5N_T0_32 (io), V13 IO_0_VRN_32 (io), V14 IO_L24P_T3_32 (io), V16 IO_L20P_T3_32 (io), V17 IO_L20N_T3_32 (io), V18 IO_L23P_T3_32 (io), V19 IO_L23N_T3_32 (io), W13 IO_25_VRP_32 (io), W14 IO_L24N_T3_32 (io), W15 IO_L22P_T3_32 (io), W16 IO_L22N_T3_32 (io), W18 IO_L21P_T3_DQS_32 (io), W19 IO_L21N_T3_DQS_32 (io), Y15 IO_L9P_T1_DQS_32 (io), Y16 IO_L9N_T1_DQS_32 (io), Y17 IO_L19P_T3_32 (io), Y18 IO_L19N_T3_VREF_32 (io)
part G pins: AA7 IO_L8N_T1_33 (io), AA8 IO_L8P_T1_33 (io), AA9 IO_L11P_T1_SRCC_33 (io), AA10 IO_L14P_T2_SRCC_33 (io), AA12 IO_L16N_T2_33 (io), AA13 IO_L16P_T2_33 (io), AB7 IO_L10P_T1_33 (io), AB9 IO_L11N_T1_SRCC_33 (io), AB10 IO_L14N_T2_SRCC_33 (io), AB11 IO_L13P_T2_MRCC_33 (io), AB12 IO_L15P_T2_DQS_33 (io), AC7 IO_L10N_T1_33 (io), AC8 IO_L9P_T1_DQS_33 (io), AC9 IO_L12P_T1_MRCC_33 (io), AC11 IO_L13N_T2_MRCC_33 (io), AC12 IO_L15N_T2_DQS_33 (io), AC13 IO_L17P_T2_33 (io), AD8 IO_L9N_T1_DQS_33 (io), AD9 IO_L12N_T1_MRCC_33 (io), AD10 IO_L20P_T3_33 (io), AD11 IO_L19P_T3_33 (io), AD13 IO_L17N_T2_33 (io), AE7 IO_L7P_T1_33 (io), AE8 IO_L22P_T3_33 (io), AE10 IO_L20N_T3_33 (io), AE11 IO_L19N_T3_VREF_33 (io), AE12 IO_L21P_T3_DQS_33 (io), AE13 IO_L23P_T3_33 (io), AF7 IO_L7N_T1_33 (io), AF8 IO_L22N_T3_33 (io), AF9 IO_L24N_T3_33 (io), AF10 IO_L24P_T3_33 (io), AF12 IO_L21N_T3_DQS_33 (io), AF13 IO_L23N_T3_33 (io), U9 IO_0_VRN_33 (io), V7 IO_L2N_T0_33 (io), V8 IO_L2P_T0_33 (io), V9 IO_L6P_T0_33 (io), V11 IO_L1P_T0_33 (io), V12 IO_25_VRP_33 (io), W8 IO_L6N_T0_VREF_33 (io), W9 IO_L3N_T0_DQS_33 (io), W10 IO_L3P_T0_DQS_33 (io), W11 IO_L1N_T0_33 (io), Y7 IO_L4N_T0_33 (io), Y8 IO_L4P_T0_33 (io), Y10 IO_L5N_T0_33 (io), Y11 IO_L5P_T0_33 (io), Y12 IO_L18N_T2_33 (io), Y13 IO_L18P_T2_33 (io)
part H pins: AA2 IO_L12N_T1_MRCC_34 (io), AA3 IO_L12P_T1_MRCC_34 (io), AA4 IO_L13P_T2_MRCC_34 (io), AA5 IO_L15P_T2_DQS_34 (io), AB1 IO_L9P_T1_DQS_34 (io), AB2 IO_L11P_T1_SRCC_34 (io), AB4 IO_L13N_T2_MRCC_34 (io), AB5 IO_L15N_T2_DQS_34 (io), AB6 IO_L16P_T2_34 (io), AC1 IO_L9N_T1_DQS_34 (io), AC2 IO_L11N_T1_SRCC_34 (io), AC3 IO_L14N_T2_SRCC_34 (io), AC4 IO_L14P_T2_SRCC_34 (io), AC6 IO_L16N_T2_34 (io), AD1 IO_L20P_T3_34 (io), AD3 IO_L19N_T3_VREF_34 (io), AD4 IO_L19P_T3_34 (io), AD5 IO_L18N_T2_34 (io), AD6 IO_L18P_T2_34 (io), AE1 IO_L20N_T3_34 (io), AE2 IO_L22N_T3_34 (io), AE3 IO_L22P_T3_34 (io), AE5 IO_L23N_T3_34 (io), AE6 IO_L23P_T3_34 (io), AF2 IO_L24N_T3_34 (io), AF3 IO_L24P_T3_34 (io), AF4 IO_L21N_T3_DQS_34 (io), AF5 IO_L21P_T3_DQS_34 (io), T7 IO_25_VRP_34 (io), U1 IO_L2N_T0_34 (io), U2 IO_L2P_T0_34 (io), U4 IO_0_VRN_34 (io), U5 IO_L1N_T0_34 (io), U6 IO_L1P_T0_34 (io), U7 IO_L5P_T0_34 (io), V1 IO_L8N_T1_34 (io), V2 IO_L8P_T1_34 (io), V3 IO_L4P_T0_34 (io), V4 IO_L6P_T0_34 (io), V6 IO_L5N_T0_34 (io), W1 IO_L10P_T1_34 (io), W3 IO_L4N_T0_34 (io), W4 IO_L6N_T0_VREF_34 (io), W5 IO_L3N_T0_DQS_34 (io), W6 IO_L3P_T0_DQS_34 (io), Y1 IO_L10N_T1_34 (io), Y2 IO_L7N_T1_34 (io), Y3 IO_L7P_T1_34 (io), Y5 IO_L17N_T2_34 (io), Y6 IO_L17P_T2_34 (io)
part I pins: C8 CCLK_0 (io), G7 INIT_B_0 (io), J7 DONE_0 (io), L8 TCK_0 (in), N8 TMS_0 (in), N11 VREFN_0 (in), N12 VP_0 (in), P5 M2_0 (in), P6 PROGRAM_B_0 (in), P7 CFGBVS_0 (in), P11 VN_0 (in), P12 VREFP_0 (in), R6 TDI_0 (in), R7 TDO_0 (out), R11 DXN_0 (in), R12 DXP_0 (in), T2 M1_0 (in), T5 M0_0 (in)
part J pins: A3 MGTXTXN3_116 (out), A4 MGTXTXP3_116 (out), B1 MGTXTXN2_116 (out), B2 MGTXTXP2_116 (out), B5 MGTXRXN3_116 (in), B6 MGTXRXP3_116 (in), C3 MGTXRXN2_116 (in), C4 MGTXRXP2_116 (in), D1 MGTXTXN1_116 (out), D2 MGTXTXP1_116 (out), D5 MGTREFCLK0N_116 (in), D6 MGTREFCLK0P_116 (in), E3 MGTXRXN1_116 (in), E4 MGTXRXP1_116 (in), F1 MGTXTXN0_116 (out), F2 MGTXTXP0_116 (out), F5 MGTREFCLK1N_116 (in), F6 MGTREFCLK1P_116 (in), G3 MGTXRXN0_116 (in), G4 MGTXRXP0_116 (in), H1 MGTXTXN3_115 (out), H2 MGTXTXP3_115 (out), H5 MGTREFCLK0N_115 (in), H6 MGTREFCLK0P_115 (in), J3 MGTXRXN3_115 (in), J4 MGTXRXP3_115 (in), K1 MGTXTXN2_115 (out), K2 MGTXTXP2_115 (out), K5 MGTREFCLK1N_115 (in), K6 MGTREFCLK1P_115 (in), L3 MGTXRXN2_115 (in), L4 MGTXRXP2_115 (in), M1 MGTXTXN1_115 (out), M2 MGTXTXP1_115 (out), M5 MGTAVTTRCAL_115, M6 MGTRREF_115 (in), N3 MGTXRXN1_115 (in), N4 MGTXRXP1_115 (in), P1 MGTXTXN0_115 (out), P2 MGTXTXP0_115 (out), R3 MGTXRXN0_115 (in), R4 MGTXRXP0_115 (in)
part K pins: B3 MGTAVTT (power), C2 MGTAVTT (power), C6 MGTAVCC (power), D3 MGTAVTT (power), E6 MGTAVCC (power), G2 MGTAVTT (power), G6 MGTAVCC (power), H3 MGTAVTT (power), J6 MGTAVCC (power), L2 MGTAVTT (power), L6 MGTAVCC (power), M3 MGTAVTT (power), N6 MGTVCCAUX (power)
part L pins: A11 VCCO_16 (power), A21 VCCO_14 (power), AA1 VCCO_34 (power), AA11 VCCO_33 (power), AA21 VCCO_12 (power), AB8 VCCO_33 (power), AB18 VCCO_32 (power), AC5 VCCO_34 (power), AC15 VCCO_32 (power), AC25 VCCO_12 (power), AD2 VCCO_34 (power), AD12 VCCO_33 (power), AD22 VCCO_12 (power), AE9 VCCO_33 (power), AE19 VCCO_32 (power), AF6 VCCO_34 (power), AF16 VCCO_32 (power), AF26 VCCO_12 (power), B8 VCCO_16 (power), B18 VCCO_15 (power), C15 VCCO_16 (power), C25 VCCO_14 (power), D12 VCCO_16 (power), D22 VCCO_14 (power), E9 VCCO_16 (power), E19 VCCO_15 (power), F16 VCCO_15 (power), F26 VCCO_14 (power), G13 VCCO_16 (power), G23 VCCO_14 (power), H10 VCCO_16 (power), H20 VCCO_15 (power), J17 VCCO_15 (power), K24 VCCO_13 (power), L7 VCCO_0 (power), L21 VCCO_14 (power), M18 VCCO_15 (power), N25 VCCO_13 (power), P22 VCCO_13 (power), R19 VCCO_13 (power), T6 VCCO_0 (power), T16 VCCO_13 (power), T26 VCCO_13 (power), U3 VCCO_34 (power), U23 VCCO_12 (power), V10 VCCO_33 (power), V20 VCCO_12 (power), W7 VCCO_33 (power), W17 VCCO_32 (power), Y4 VCCO_34 (power), Y14 VCCO_32 (power), Y24 VCCO_12 (power)
part M pins: E8 VCCBATT_0 (power), J9 VCCINT (power), K8 VCCINT (power), K10 VCCINT (power), K12 VCCINT (power), K14 VCCINT (power), L9 VCCINT (power), L11 VCCAUX (power), L13 VCCINT (power), L15 VCCINT (power), M8 VCCINT (power), M10 VCCAUX (power), M12 VCCADC_0 (power), M14 VCCINT (power), N9 VCCINT (power), N13 VCCBRAM (power), N15 VCCINT (power), P8 VCCAUX_IO_G0 (power), P10 VCCAUX (power), P14 VCCINT (power), R9 VCCAUX_IO_G0 (power), R13 VCCBRAM (power), R15 VCCINT (power), T8 VCCAUX_IO_G0 (power), T10 VCCAUX (power), T12 VCCBRAM (power), T14 VCCINT (power), U11 VCCAUX (power), U13 VCCBRAM (power), U15 VCCINT (power)
part N pins: A1 GND (power), A2 GND (power), A5 GND (power), A6 GND (power), A7 GND (power), A16 GND (power), A26 GND (power), AA6 GND (power), AA16 GND (power), AA26 GND (power), AB3 GND (power), AB13 GND (power), AB23 GND (power), AC10 GND (power), AC20 GND (power), AD7 GND (power), AD17 GND (power), AE4 GND (power), AE14 GND (power), AE24 GND (power), AF1 GND (power), AF11 GND (power), AF21 GND (power), B4 GND (power), B7 GND (power), B13 GND (power), B23 GND (power), C1 GND (power), C5 GND (power), C7 GND (power), C10 GND (power), C20 GND (power), D4 GND (power), D7 GND (power), D17 GND (power), E1 GND (power), E2 GND (power), E5 GND (power), E7 GND (power), E14 GND (power), E24 GND (power), F3 GND (power), F4 GND (power), F7 GND (power), F11 GND (power), F21 GND (power), G1 GND (power), G5 GND (power), G8 GND (power), G18 GND (power), H4 GND (power), H7 GND (power), H15 GND (power), H25 GND (power), J1 GND (power), J2 GND (power), J5 GND (power), J12 GND (power), J22 GND (power), K3 GND (power), K4 GND (power), K7 GND (power), K9 GND (power), K11 GND (power), K13 GND (power), K19 GND (power), L1 GND (power), L5 GND (power), L10 GND (power), L12 GND (power), L14 GND (power), L16 GND (power), L26 GND (power), M4 GND (power), M7 GND (power), M9 GND (power), M11 GNDADC_0 (power), M13 GND (power), M15 GND (power), M23 GND (power), N1 GND (power), N2 GND (power), N5 GND (power), N7 GND (power), N10 GND (power), N14 GND (power), N20 GND (power), P3 GND (power), P4 GND (power), P9 GND (power), P13 GND (power), P15 GND (power), P17 GND (power), R1 GND (power), R2 GND (power), R5 GND (power), R8 GND (power), R10 GND (power), R14 GND (power), R24 GND (power), T1 GND (power), T3 GND (power), T4 GND (power), T9 GND (power), T11 GND (power), T13 GND (power), T15 GND (power), T21 GND (power), U8 GND (power), U10 GND (power), U12 GND (power), U14 GND (power), U18 GND (power), V5 GND (power), V15 GND (power), V25 GND (power), W2 GND (power), W12 GND (power), W22 GND (power), Y9 GND (power), Y19 GND (power)
part A text: BANK 12
part B text: BANK 13
part C text: BANK 14
part D text: BANK 15
part E text: BANK 16
part F text: BANK 32
part G text: BANK 33
part H text: BANK 34